# Altium footprint library transistor.PcbLib: 21 footprints (part 1 of 2)
Each footprint in its own frame and in the unit in brackets; x right, y up, seen from the top. Pads: shape width x height; smd on the part's side, far side on the other; paste and mask are expansions set on the pad; w line width, h text height; cw(c..) or ccw(c..) is an arc to the next point about the centre after c.
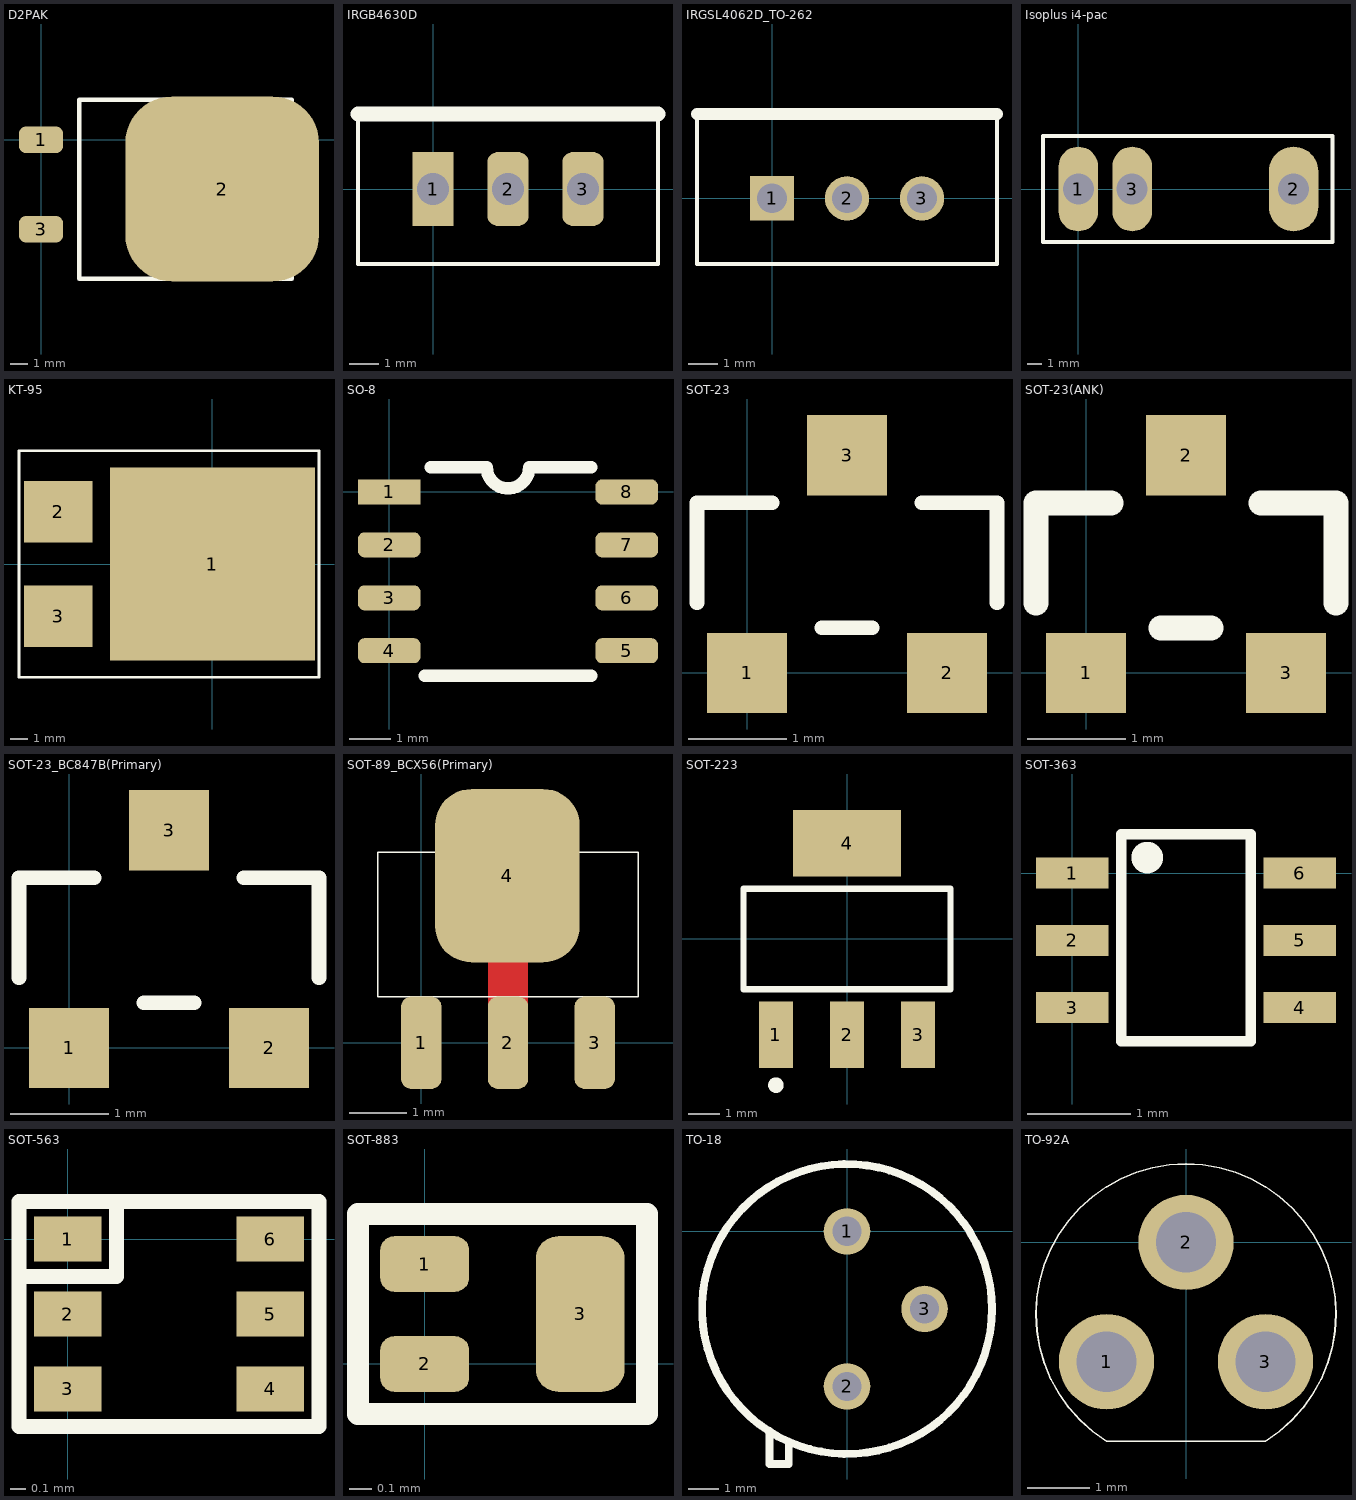
[diagram p0: the footprints below, top view; thin cyan lines are the x and y axes]

## D2PAK [mm]
pads (3):
  rrect50% 2.5x1.5 smd: 1(0,0) 3(0,-5.08)
  rrect50% 11x10.5 smd: 2(10.287,-2.794)
Top Overlay:
  lines w0.254: 2.171,-7.88 14.236,-7.88 14.236,2.28 2.171,2.28 2.171,-7.88
3D body "User Library-D2PAK.SLDPRT": height 4.83, standoff 0, extent -0.941,-8.126 14.939,2.544

## IRGB4630D [mm]
pads (3):
  rect 1.4x2.5 hole 1.1: 1(0,0)
  rrect50% 1.4x2.5 hole 1.1: 2(2.54,0) 3(5.08,0)
Top Overlay:
  lines w0.15: -2.54,2.54 -2.54,-2.54 7.62,-2.54 7.62,2.54
  lines w0.5: -2.54,2.54 7.62,2.54

## IRGSL4062D_TO-262 [mm]
pads (3):
  rect 1.5x1.5 hole 1: 1(0,0)
  round 1.5 hole 1: 2(2.54,0) 3(5.08,0)
Top Overlay:
  lines w0.15: -2.54,2.857 -2.54,-2.222 7.62,-2.222 7.62,2.857
  lines w0.4: -2.54,2.857 7.62,2.857

## Isoplus i4-pac [mm]
pads (3):
  oval 2.8x6 hole 2.2 unplated: 1(0,0) 3(3.81,0)
  oval 3.5x6 hole 2.2 unplated: 2(15.24,0)
Top Overlay:
  lines w0.3: -2.5,-3.75 18,-3.75 18,3.75 -2.5,3.75 -2.5,-3.75
3D body "IXBH42N300.step": height 4.84, standoff -17, extent -2.35,-0.35 17.55,24.69

## KT-95 [mm]
pads (3):
  rect 12x11.3 smd: 1(0,0)
  rect 4x3.6 smd: 2(-9.017,3.048) 3(-9.017,-3.048)
Top Overlay:
  lines w0.15: -11.303,-6.604 -11.303,6.604 6.223,6.604 6.223,-6.604 -11.303,-6.604

## SO-8 [mm]
pads (8):
  rect 1.5x0.6 smd: 1(0,0)
  rrect50% 1.5x0.6 smd: 2(0,-1.27) 3(0,-2.54) 4(0,-3.81) 5(5.7,-3.81) 6(5.7,-2.54) 7(5.7,-1.27) 8(5.7,0)
Top Overlay:
  lines w0.3: 0.85,-4.405 4.85,-4.405 ; 1,0.595 2.342,0.595 ccw(c2.85,0.595) 3.358,0.595 4.85,0.595
3D body "so8-3.step": height 1.7, standoff 0, extent -0.15,-4.35 5.85,0.55

## SOT-23 [mil]
pads (3):
  rect 32x32 smd: 1(0,0) 2(80,0) 3(40,87)
Top Overlay:
  lines w5.91: -20,28 -20,68 10,68 ; 30,18 50,18 ; 70,68 100,68 100,28
3D body "User Library-3-lead sot23-3.step": height 39.76, standoff -0.39, extent -17.12,-5.9 97.84,91.58

## SOT-23(ANK) [mil]
pads (3):
  rect 32x32 smd: 1(0,0) 2(40,87) 3(80,0)
Top Overlay:
  lines w10: -20,28 -20,68 10,68 ; 30,18 50,18 ; 70,68 100,68 100,28

## SOT-23_BC847B(Primary) [mil]
pads (3):
  rect 32x32 smd: 1(0,0) 2(80,0) 3(40,87)
Top Overlay:
  lines w5.91: -20,28 -20,68 10,68 ; 30,18 50,18 ; 70,68 100,68 100,28
3D body "User Library-3-lead sot23-3.step": height 40.16, standoff 0, extent -17.12,-5.9 97.84,91.58

## SOT-89_BCX56(Primary) [mm]
pads (4):
  rrect50% 0.7x1.6 smd: 1(0,0) 2(1.5,0) 3(3,0)
  rrect50% 2.5x3 smd: 4(1.49,2.89)
Top Layer:
  lines w0.7: 1.5,0.45 1.5,2.1
Top Overlay:
  lines w0.025: -0.75,0.8 3.75,0.8 3.75,3.3 -0.75,3.3 -0.75,0.8

## SOT-223 [mm]
pads (4):
  rect 1.1x2.15 smd: 1(-2.3,-3.1) 2(0,-3.1) 3(2.3,-3.1)
  rect 3.5x2.15 smd: 4(0,3.1)
Top Overlay:
  circle w0.25: c-2.3,-4.725 r0.125
  lines w0.2: -3.35,-1.625 3.35,-1.625 3.35,1.625 -3.35,1.625 -3.35,-1.625
3D body "User Library-SOT223-3.SLDPRT": height 1.7, standoff 0, extent -3.25,-3.474 3.25,3.526

## SOT-363 [mm]
pads (6):
  rect 0.7x0.3 smd: 1(0,0) 2(0,-0.65) 3(0,-1.3) 4(2.2,-1.3) 5(2.2,-0.65) 6(2.2,0)
Top Overlay:
  circle w0.254: c0.725,0.15 r0.025
  lines w0.1: 0.475,-1.625 0.475,0.375 1.725,0.375 1.725,-1.625 0.475,-1.625
3D body: height 0.5, standoff 0.02, extent 0.475,-1.625 1.725,0.375

## SOT-563 [mm]
pads (6):
  rect 0.45x0.3 smd: 1(0,0) 2(0,-0.5) 3(0,-1) 4(1.35,-1) 5(1.35,-0.5) 6(1.35,0)
Top Overlay:
  lines w0.1: -0.3,-0.25 0.325,-0.25 0.325,0.25 ; 0.55,0.25 1.675,0.25 1.675,-1.25 -0.325,-1.25 -0.325,0.25 0.8,0.25
3D body "User Library-SOT-563.step": height 0.58, standoff 0, extent -0.138,-1.3 1.488,0.3

## SOT-883 [mm]
pads (3):
  rrect50% 0.4x0.25 smd: 1(0,0.45) 2(0,0)
  rrect50% 0.4x0.7 smd: 3(0.7,0.225)
Top Overlay:
  lines w0.1: -0.3,-0.225 -0.3,0.675 1,0.675 1,-0.225 -0.3,-0.225

## TO-18 [mil]
pads (3):
  round 60 hole 38: 1(0,0) 2(0,-200) 3(100,-100)
Top Overlay:
  circle w10: c0,-100 r187.01
  lines w10: -100,-257.48 -100,-300 -75,-300 -75,-275

## TO-92A [mil]
pads (3):
  round 60 hole 38: 1(-50,-75) 2(0,0) 3(50,-75)
Top Overlay:
  lines w1: -49.99,-125 cw(c0,-45) 49.99,-125 -50,-125